# Altium schematic symbol library TrackCommanderCar_Sch.SchLib: 43 symbols
Pins are listed as number, name and electrical type; pins without a type are passive.

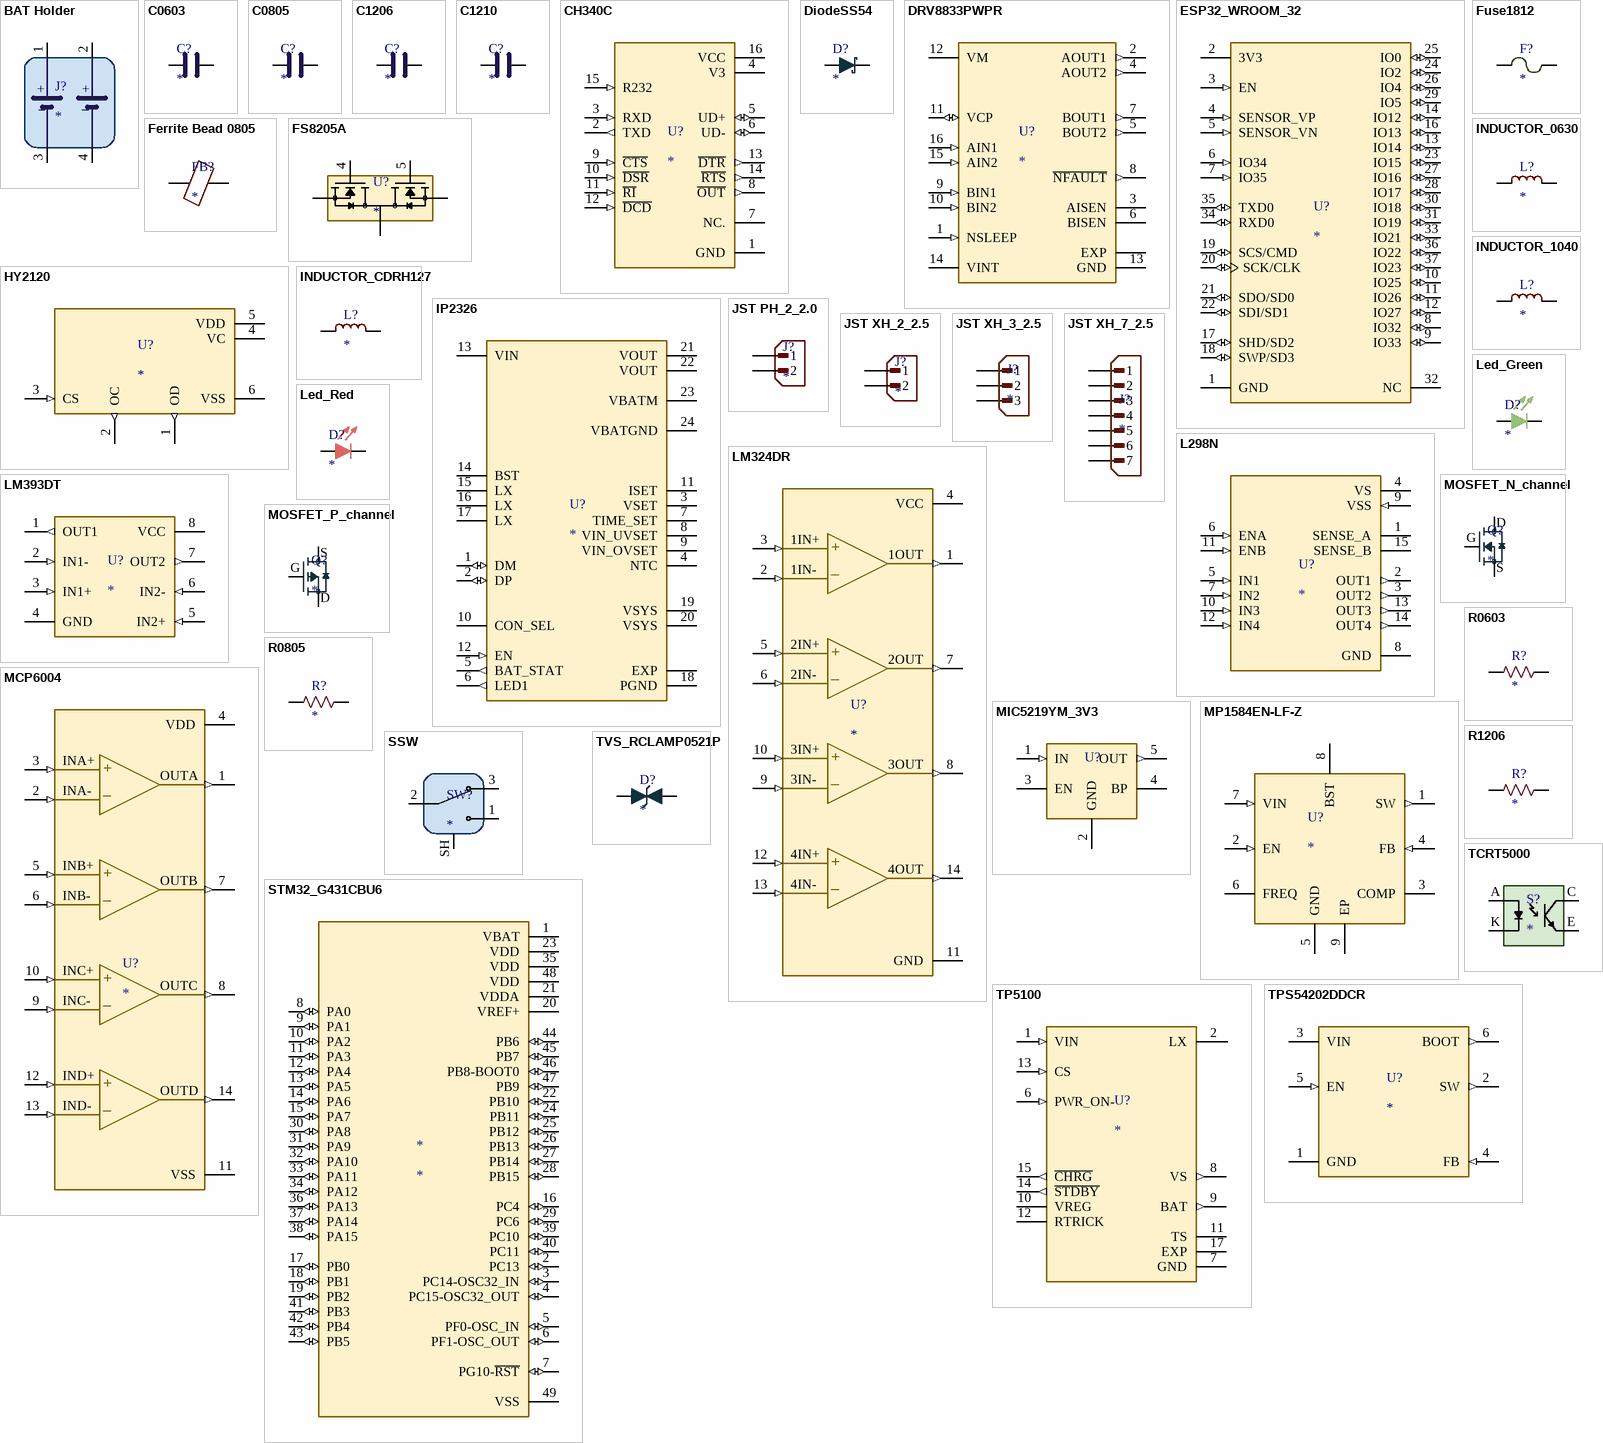
[diagram p0: symbols BAT Holder to TVS_RCLAMP0521P]

## BAT Holder
designator J?
footprint BAT HOLDER BLM 18650 2PCS
pins: 1 BAT1+, 2 BAT2+, 3 BAT1-, 4 BAT2-
text: +; _

## C0603
designator C?
footprint C_0603
pins: 1, 2

## C0805
designator C?
footprint C_0805
pins: 1, 2

## C1206
designator C?
footprint C_1206
pins: 1, 2

## C1210
designator C?
footprint C_1210
pins: 1, 2

## CH340C
designator U?
footprint CH340C
pins: 1 GND (power), 2 TXD (out), 3 RXD (in), 4 V3 (power), 5 UD+ (io), 6 UD- (io), 7 NC., 8 ~{OUT} (out), 9 ~{CTS} (in), 10 ~{DSR} (in), 11 ~{RI} (in), 12 ~{DCD} (in), 13 ~{DTR} (out), 14 ~{RTS} (out), 15 R232 (in), 16 VCC (power)

## DiodeSS54
designator D?
footprint DiodeS54
pins: 1 K, 2 A

## DRV8833PWPR
designator U?
Dual H-Bridge Motor Driver
footprint DRV8833PWPR
pins: 1 NSLEEP (in), 2 AOUT1 (out), 3 AISEN, 4 AOUT2 (out), 5 BOUT2 (out), 6 BISEN, 7 BOUT1 (out), 8 ~{NFAULT} (out), 9 BIN1 (in), 10 BIN2 (in), 11 VCP (io), 12 VM (power), 13 GND (power), 14 VINT (power), 15 AIN2 (in), 16 AIN1 (in), GND EXP

## ESP32_WROOM_32
designator U?
footprint ESP32_Wroom_32
pins: 1 GND (power), 2 3V3 (power), 3 EN (in), 4 SENSOR_VP (in), 5 SENSOR_VN (in), 6 IO34 (in), 7 IO35 (in), 8 IO32 (io), 9 IO33 (io), 10 IO25 (io), 11 IO26 (io), 12 IO27 (io), 13 IO14 (io), 14 IO12 (io), 15 GND (power), 16 IO13 (io), 17 SHD/SD2 (io), 18 SWP/SD3 (io), 19 SCS/CMD (io), 20 SCK/CLK (io), 21 SDO/SD0 (io), 22 SDI/SD1 (io), 23 IO15 (io), 24 IO2 (io), 25 IO0 (io), 26 IO4 (io), 27 IO16 (io), 28 IO17 (io), 29 IO5 (io), 30 IO18 (io), 31 IO19 (io), 32 NC, 33 IO21 (io), 34 RXD0 (io), 35 TXD0 (io), 36 IO22 (io), 37 IO23 (io), 38 GND (power), GND (power)

## Ferrite Bead 0805
designator FB?
footprint Ferrite bead 0805
pins: 1, 2

## FS8205A
designator U?
Back to back MOSFET
footprint FS8205A
pins: 1 D12, 2 S1, 3 S1, 4 G1, 5 G2, 6 S2, 7 S2, 8 D12

## Fuse1812
designator F?
footprint Fuse1812
pins: 1, 2

## HY2120
designator U?
Battery protection
footprint HY2120
pins: 1 OD (out), 2 OC (out), 3 CS (in), 4 VC, 5 VDD, 6 VSS

## INDUCTOR_0630
designator L?
footprint Inductor0630
pins: 1, 2

## INDUCTOR_1040
designator L?
footprint INDUCTOR 1040
pins: 1, 2

## INDUCTOR_CDRH127
designator L?
footprint INDUCTOR CDRH127
pins: 1, 2

## IP2326
designator U?
footprint IP2326_QFN_24
pins: 1 DM (io), 2 DP (io), 3 VSET, 4 NTC, 5 BAT_STAT (out), 6 LED1 (out), 7 TIME_SET, 8 VIN_UVSET, 9 VIN_OVSET, 10 CON_SEL, 11 ISET, 12 EN (in), 13 VIN, 14 BST, 15 LX, 16 LX, 17 LX, 18 PGND, 19 VSYS, 20 VSYS, 21 VOUT, 22 VOUT, 23 VBATM, 24 VBATGND, GND EXP

## JST PH_2_2.0
designator J?
footprint JST PH_2_2.0
pins: 1, 2

## JST XH_2_2.5
designator J?
footprint JST XH_2_2.5
pins: 1, 2

## JST XH_3_2.5
designator J?
footprint JST XH_3_2.5
pins: 1, 2, 3

## JST XH_7_2.5
designator J?
footprint JST XH_7_2.5
pins: 1, 2, 3, 4, 5, 6, 7

## L298N
designator U?
footprint TO127P2020X500X2100-15
pins: 1 SENSE_A, 2 OUT1 (out), 3 OUT2 (out), 4 VS (power), 5 IN1 (in), 6 ENA (in), 7 IN2 (in), 8 GND (power), 9 VSS (in), 10 IN3 (in), 11 ENB (in), 12 IN4 (in), 13 OUT3 (out), 14 OUT4 (out), 15 SENSE_B

## Led_Green
designator D?
footprint Led_0603
pins: 1 K, 2 A

## Led_Red
designator D?
footprint Led_0603
pins: 1 K, 2 A

## LM324DR
designator U?
footprint LM324DR
pins: 1 1OUT (out), 2 1IN- (in), 3 1IN+ (in), 4 VCC (power), 5 2IN+ (in), 6 2IN- (in), 7 2OUT (out), 8 3OUT (out), 9 3IN- (in), 10 3IN+ (in), 11 GND (power), 12 4IN+ (in), 13 4IN- (in), 14 4OUT (out)
text: +; _

## LM393DT
designator U?
footprint LM393DT
pins: 1 OUT1 (out), 2 IN1- (in), 3 IN1+ (in), 4 GND, 5 IN2+ (in), 6 IN2- (in), 7 OUT2 (out), 8 VCC (power)

## MCP6004
designator U?
OP_AMP rail to rail
footprint MCP6004_SOIC
pins: 1 1OUT (out), 2 1IN- (in), 3 1IN+ (in), 4 VDD (power), 5 2IN+ (in), 6 2IN- (in), 7 2OUT (out), 8 3OUT (out), 9 3IN- (in), 10 3IN+ (in), 11 VSS (power), 12 4IN+ (in), 13 4IN- (in), 14 4OUT (out)
text: INA+; +; OUTA; INA-; _; INB+; OUTB; INB-; INC+; OUTC; INC-; IND+; OUTD; IND-

## MIC5219YM_3V3
designator U?
footprint MIC5219_SOT23_5
pins: 1 IN (in), 2 GND, 3 EN, 4 BP, 5 OUT (out)

## MOSFET_N_channel
designator Q?
footprint SOT-23
pins: 1 G, 2 S, 3 D

## MOSFET_P_channel
designator Q?
footprint SOT-23
pins: 1 G, 2 S, 3 D

## MP1584EN-LF-Z
designator U?
footprint SOIC127P600X170-9N
pins: 1 SW (out), 2 EN (in), 3 COMP, 4 FB (in), 5 GND (power), 6 FREQ, 7 VIN (in), 8 BST, 9 EP (power)

## R0603
designator R?
footprint R_0603
pins: 1, 2

## R0805
designator R?
footprint R_0805
pins: 1, 2

## R1206
designator R?
footprint R_1206
pins: 1, 2

## SSW
designator SW?
footprint Slide_SW_SS12F23G4
pins: 1, 2, 3, SH

## STM32_G431CBU6
designator *
footprint STM32_G431
pins: 1 VBAT (power), 2 PC13 (io), 3 PC14-OSC32_IN (io), 4 PC15-OSC32_OUT (io), 5 PF0-OSC_IN (io), 6 PF1-OSC_OUT (io), 7 PG10-~{RST} (io), 8 PA0 (io), 9 PA1 (io), 10 PA2 (io), 11 PA3 (io), 12 PA4 (io), 13 PA5 (io), 14 PA6 (io), 15 PA7 (io), 16 PC4 (io), 17 PB0 (io), 18 PB1 (io), 19 PB2 (io), 20 VREF+ (power), 21 VDDA (power), 22 PB10 (io), 23 VDD (power), 24 PB11 (io), 25 PB12 (io), 26 PB13 (io), 27 PB14 (io), 28 PB15 (io), 29 PC6 (io), 30 PA8 (io), 31 PA9 (io), 32 PA10 (io), 33 PA11 (io), 34 PA12 (io), 35 VDD (power), 36 PA13 (io), 37 PA14 (io), 38 PA15 (io), 39 PC10 (io), 40 PC11 (io), 41 PB3 (io), 42 PB4 (io), 43 PB5 (io), 44 PB6 (io), 45 PB7 (io), 46 PB8-BOOT0 (io), 47 PB9 (io), 48 VDD (power), 49 VSS (power)

## TCRT5000
designator S?
footprint TCRT5000
pins: A, CATH, COLL, E
text: C; K

## TP5100
designator U?
2A-switch buck 8.4V / 4.2V rechargeable lithium battery; MP: TP5100; MF: NanJing Top Power ASIC Corp.; Availability: Not in stock; Price: None; Value: *; SnapEDA_Link: https://www.snapeda.com/parts/TP5100/NanJing+Top+Power+ASIC+Corp./view-part/?ref=snap; Check_prices: https://www.snapeda.com/parts/TP5100/NanJing+Top+Power+ASIC+Corp./view-part/?ref=eda; Package: Package
footprint QFN65P400X400X90-17N
pins: 1 VIN (in), 2 LX, 3 LX, 4 VIN (in), 5 VIN (in), 6 PWR_ON- (in), 7 GND (power), 8 VS (out), 9 BAT (out), 10 VREG, 11 TS, 12 RTRICK, 13 CS (in), 14 ~{STDBY} (out), 15 ~{CHRG} (out), 16 VIN (in), 17 EXP

## TPS54202DDCR
designator U?
footprint TPS54202DDCR
pins: 1 GND (power), 2 SW (out), 3 VIN, 4 FB (in), 5 EN (in), 6 BOOT (out)

## TVS_RCLAMP0521P
designator D?
footprint TVS_RCLAMP0521P
pins: 1, 2

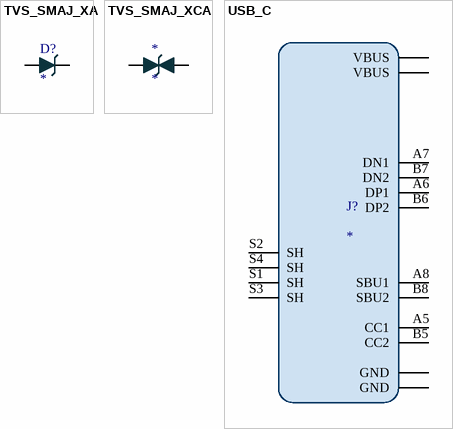
[diagram p1: symbols TVS_SMAJ_XA to USB_C]

## TVS_SMAJ_XA
designator D?
footprint TVS_SMAJ_XA
pins: 1 C, 2 A

## TVS_SMAJ_XCA
designator *
footprint TVS_SMAJ_XCA
pins: 1, 2

## USB_C
designator J?
16_PIN
footprint USB_C_16Pin
pins: A1_B12 GND (power), A4_B9 VBUS (power), A5 CC1, A6 DP1, A7 DN1, A8 SBU1, B1_A12 GND (power), B4_A9 VBUS (power), B5 CC2, B6 DP2, B7 DN2, B8 SBU2, S1 SH, S2 SH, S3 SH, S4 SH